# Altium footprint library liuxiaolong.PcbLib: 61 footprints (part 4 of 4)
Each footprint in its own frame and in the unit in brackets; x right, y up, seen from the top. Pads: shape width x height; smd on the part's side, far side on the other; paste and mask are expansions set on the pad; w line width, h text height; cw(c..) or ccw(c..) is an arc to the next point about the centre after c.
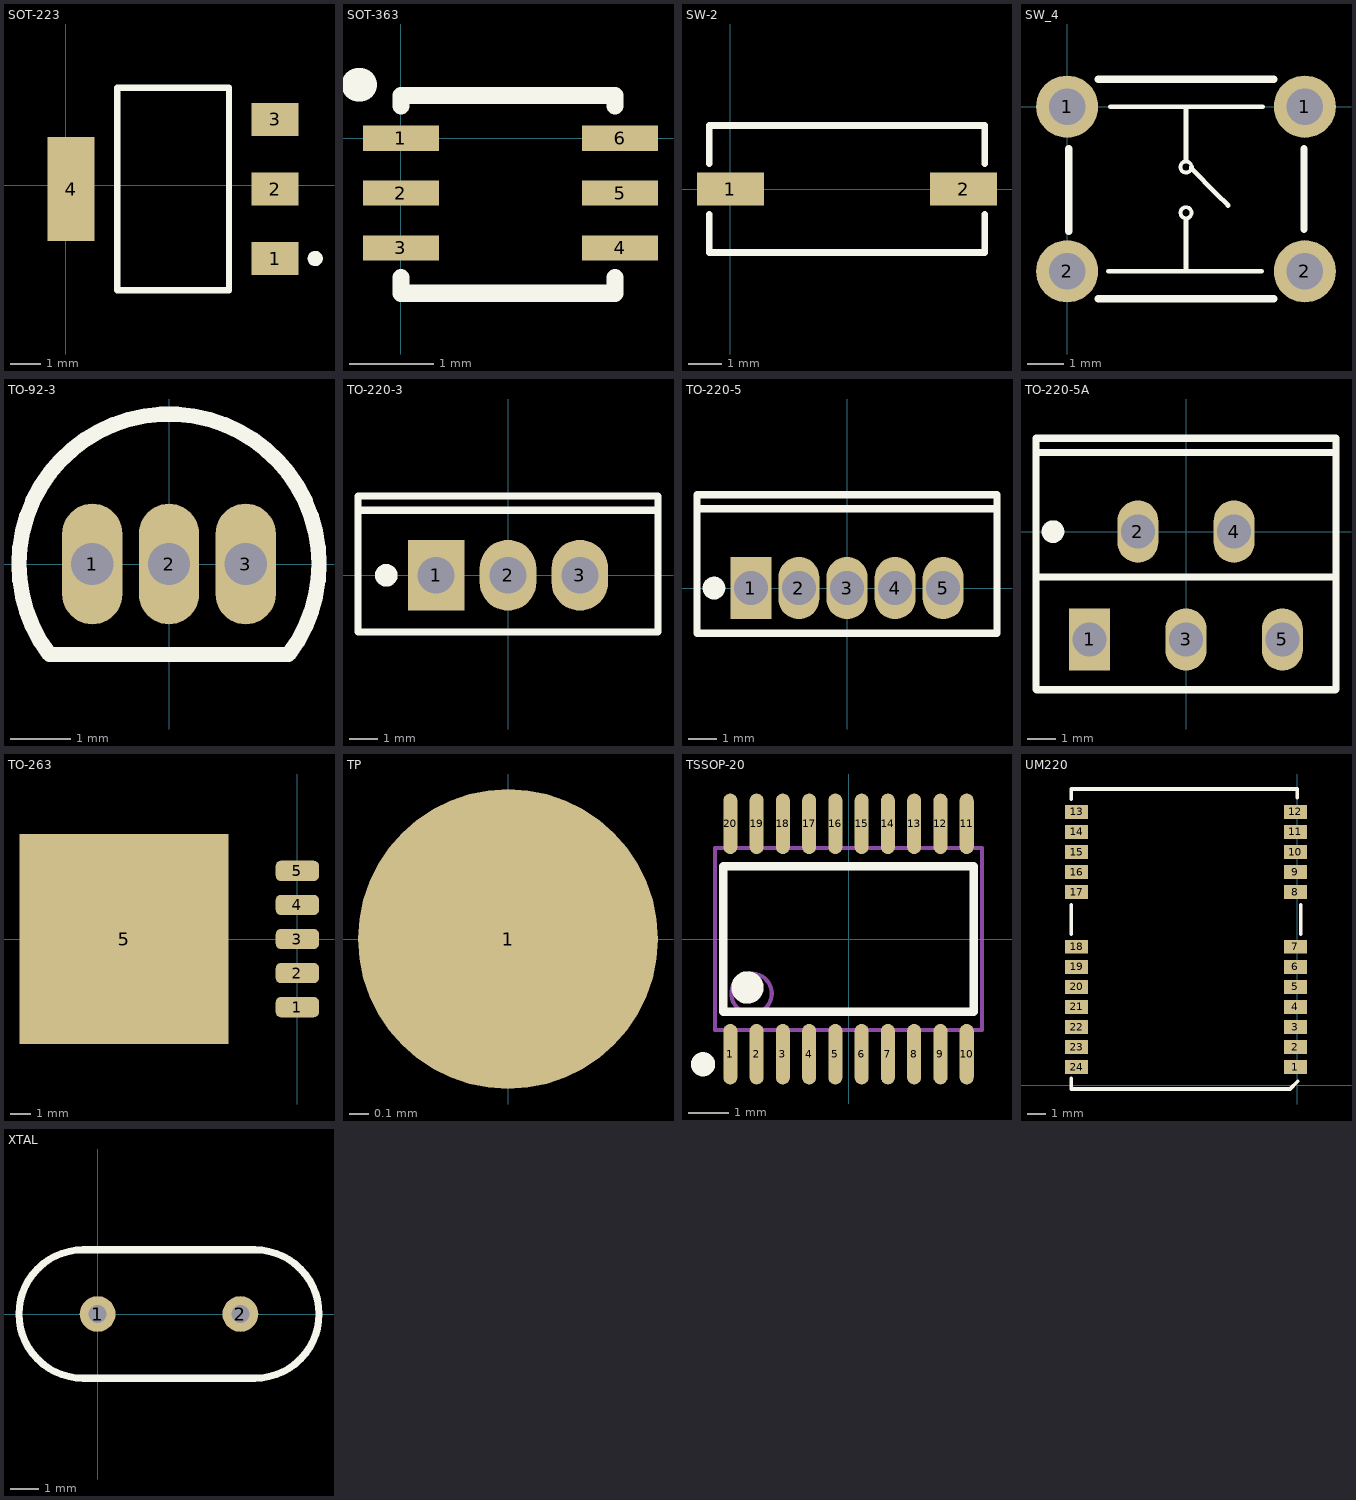
[diagram p3: the footprints below, top view; thin cyan lines are the x and y axes]

## SOT-223 [mm]
pads (4):
  rect 1.55x1.1 smd: 1(6.931,-2.427) 2(6.931,-0.127) 3(6.931,2.173)
  rect 1.55x3.45 smd: 4(0.181,-0.127)
Top Overlay:
  circle w0.25: c8.256,-2.427 r0.125
  lines w0.2: 1.706,-3.477 5.406,-3.477 5.406,3.223 1.706,3.223 1.706,-3.477

## SOT-363 [mm]
pads (6):
  rect 0.9x0.3 smd: 1(0,0) 2(0,-0.65) 3(0,-1.3) 4(2.6,-1.3) 5(2.6,-0.65) 6(2.6,0)
Top Overlay:
  lines w0.203: 0,-1.651 0,-1.838 2.54,-1.838 2.54,-1.651 ; 0,0.381 0,0.508 2.54,0.508 2.54,0.381
  lines w0.4: -0.508,0.635 -0.483,0.635

## SW-2 [mm]
height 2.54
pads (2):
  rect 2x1 smd: 1(0,0) 2(6.985,0)
Top Overlay:
  lines w0.203: -0.635,-0.762 -0.635,-1.905 7.62,-1.905 7.62,-0.762 ; -0.635,0.762 -0.635,1.905 7.62,1.905 7.62,0.762

## SW_4 [mm]
pads (4):
  round 1.7 hole 1: 1(0,0) 1(6.5,0) 2(0,-4.5) 2(6.5,-4.5)
Top Overlay:
  circle w0.102: c3.25,-1.65 r0.152
  circle w0.102: c3.25,-2.9 r0.152
  lines w0.127: 1.125,-4.5 5.325,-4.5 ; 1.175,0 5.35,0 ; 3.25,-4.475 3.25,-3.1 ; 3.25,-1.45 3.25,0 ; 3.402,-1.65 3.402,-1.702 4.075,-2.375 ; 4.4,-2.7 4.075,-2.375 ; 4.075,-2.375 4.075,-2.375
  lines w0.203: 0.05,-3.4 0.05,-1.15 ; 0.85,-5.25 5.65,-5.25 ; 0.85,0.75 5.65,0.75 ; 6.475,-3.35 6.475,-1.15

## TO-92-3 [mm]
pads (3):
  oval 1x2 hole 0.7 mask+0.051: 1(-1.27,0) 2(0,0) 3(1.27,0)
Top Overlay:
  lines w0.254: -1.98,-1.5 cw(c0,0) 1.98,-1.5 -1.98,-1.5
Mechanical 13:
  lines w0.1: -1.98,-1.5 cw(c0,0) 1.98,-1.5 -1.98,-1.5
3D body: height 8, standoff -5, extent -2.613,-1.6 2.613,2.604

## TO-220-3 [mm] "三极管,MOS管"
pads (3):
  rect 2x2.5 hole 1.3: 1(-2.54,0)
  oval 2x2.5 hole 1.3: 2(0,0) 3(2.54,0)
Top Overlay:
  circle w0.4: c-4.3,0 r0.2
  lines w0.254: -5.3,2.3 5.3,2.3 ; -5.3,-2 5.3,-2 5.3,2.8 -5.3,2.8 -5.3,-2
3D body: height 19.6, standoff -8.87, extent -5.08,-1.451 5.08,2.9

## TO-220-5 [mm] "简易开关电源"
pads (5):
  rect 1.45x2.2 hole 1.2 mask+0.051: 1(-3.4,0)
  oval 1.45x2.2 hole 1.2 mask+0.051: 2(-1.7,0) 3(0,0) 4(1.7,0) 5(3.4,0)
Top Overlay:
  circle w0.4: c-4.7,0 r0.2
  lines w0.254: -5.2,2.8 5.3,2.8 ; -5.3,-1.6 5.3,-1.6 5.3,3.3 -5.3,3.3 -5.3,-1.6

## TO-220-5A [mm]
pads (5):
  rect 1.45x2.2 hole 1.2 mask+0.051: 1(-3.404,-3.81)
  oval 1.45x2.2 hole 1.2 mask+0.051: 2(-1.7,0) 3(0,-3.81) 4(1.7,0) 5(3.404,-3.81)
Top Overlay:
  circle w0.4: c-4.7,0 r0.2
  lines w0.254: -5.2,2.8 5.3,2.8 ; -5.3,-1.6 5.3,-1.6 ; -5.3,-1.6 -5.3,3.3 5.3,3.3 5.3,-1.6 ; -5.3,-1.6 -5.3,-5.571 -5.283,-5.588 5.283,-5.588 5.3,-5.571 5.3,-1.6

## TO-263 [mm]
pads (6):
  rrect50% 2.16x1.01 smd: 1(0,-3.4) 2(0,-1.7) 3(0,0) 4(0,1.7) 5(0,3.4)
  rect 10.41x10.48 smd: 5(-8.65,0)

## TP [mil]
height 60
pads (1):
  round 60 smd: 1(0,0)

## TSSOP-20 [mm]
pads (20):
  oval 0.35x1.5 smd: 1(-2.925,-2.85) 2(-2.275,-2.85) 3(-1.625,-2.85) 4(-0.975,-2.85) 5(-0.325,-2.85) 6(0.325,-2.85) 7(0.975,-2.85) 8(1.625,-2.85) 9(2.275,-2.85) 10(2.925,-2.85) 11(2.925,2.85) 12(2.275,2.85) 13(1.625,2.85) 14(0.975,2.85) 15(0.325,2.85) 16(-0.325,2.85) 17(-0.975,2.85) 18(-1.625,2.85) 19(-2.275,2.85) 20(-2.925,2.85)
Top Overlay:
  circle w0.4: c-2.5,-1.2 r0.2
  circle w0.3: c-3.6,-3.1 r0.15
  lines w0.2: -3.1,-1.8 3.1,-1.8 3.1,1.8 -3.1,1.8 -3.1,-1.8
Mechanical 13:
  circle w0.1: c-2.4,-1.35 r0.5
  lines w0.1: -3.3,-2.25 3.3,-2.25 3.3,2.25 -3.3,2.25 -3.3,-2.25

## UM220 [mm]
height 0.508
pads (24):
  rect 1.27x0.762 smd: 1(-0.1,1) 2(-0.1,2.1) 4(-0.1,4.3) 5(-0.1,5.4) 6(-0.1,6.5) 7(-0.1,7.6) 8(-0.1,10.6) 9(-0.1,11.7) 10(-0.1,12.8) 11(-0.1,13.9) 12(-0.1,15) 13(-12.1,15) 14(-12.1,13.9) 15(-12.1,12.8) 16(-12.1,11.7) 17(-12.1,10.6) 18(-12.1,7.6) 19(-12.1,6.5) 20(-12.1,5.4) 21(-12.1,4.3) 23(-12.1,2.1) 24(-12.1,1)
  rect 1.27x0.762 smd paste+0: 3(-0.1,3.2) 22(-12.1,3.2)
Top Overlay:
  lines w0.203: -12.4,0.392 -12.4,-0.2 -0.4,-0.2 0.027,0.227 ; -12.4,8.3 -12.4,9.9 ; -12.4,15.7 -12.4,16.256 0,16.256 0,15.773 ; 0.2,8.3 0.2,9.9

## XTAL [mm] "晶振"
height 0.762
pads (2):
  round 1.27 hole 0.635: 1(0,0) 2(5.08,0)
Top Overlay:
  lines w0.254: -0.508,-2.286 cw(c-0.508,0) -0.508,2.286 5.588,2.286 cw(c5.588,0) 5.588,-2.286 -0.508,-2.286